# Altium footprint library DR74.PcbLib: 1 footprints
Each footprint in its own frame and in the unit in brackets; x right, y up, seen from the top. Pads: shape width x height; smd on the part's side, far side on the other; paste and mask are expansions set on the pad; w line width, h text height; cw(c..) or ccw(c..) is an arc to the next point about the centre after c.
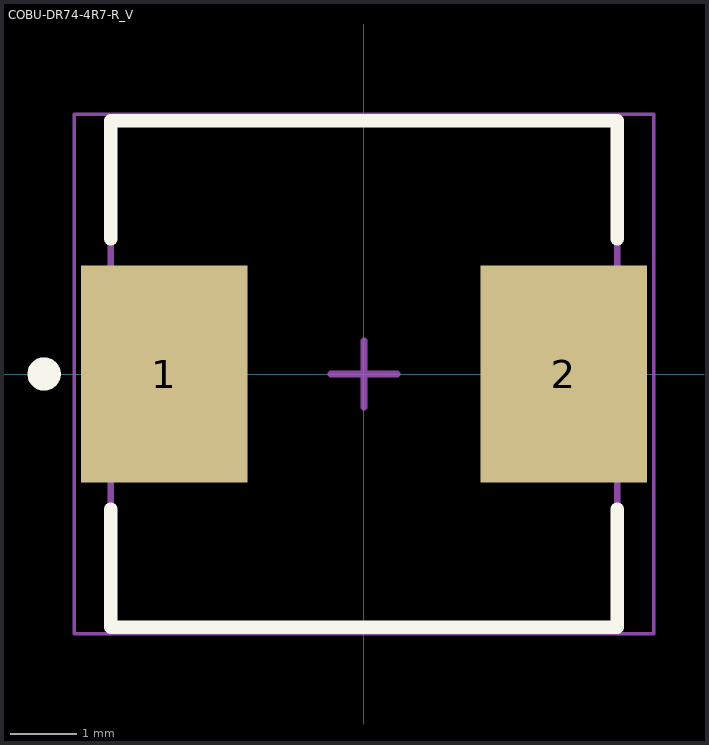
[diagram p0: the footprint, top view; thin cyan lines are the x and y axes]

## COBU-DR74-4R7-R_V [mm] "SMD, 2-Leads, Body 7.6x7.6mm"
height 4.35
pads (2):
  rect 2.5x3.25 smd: 1(-3,0) 2(3,0)
Top Overlay:
  circle w0.25: c-4.8,0 r0.125
  lines w0.2: -3.8,-2.025 -3.8,-3.8 3.8,-3.8 3.8,-2.025 ; -3.8,2.025 -3.8,3.8 3.8,3.8 3.8,2.025
Mechanical 13:
  lines w0.1: -3.8,-3.8 -3.8,3.8 3.8,3.8 3.8,-3.8 -3.8,-3.8
Mechanical 15:
  lines w0.05: -4.35,-3.9 -4.35,3.9 4.35,3.9 4.35,-3.9 -4.35,-3.9
  lines w0.1: -0.5,0 0.5,0 ; 0,-0.5 0,0.5
3D body: height 4.35, standoff 0, extent -3.8,-3.8 3.8,3.8